# Altium integrated library Capacitors - Ceramic - 0402.IntLib: 4569 symbols (part 21 of 100)
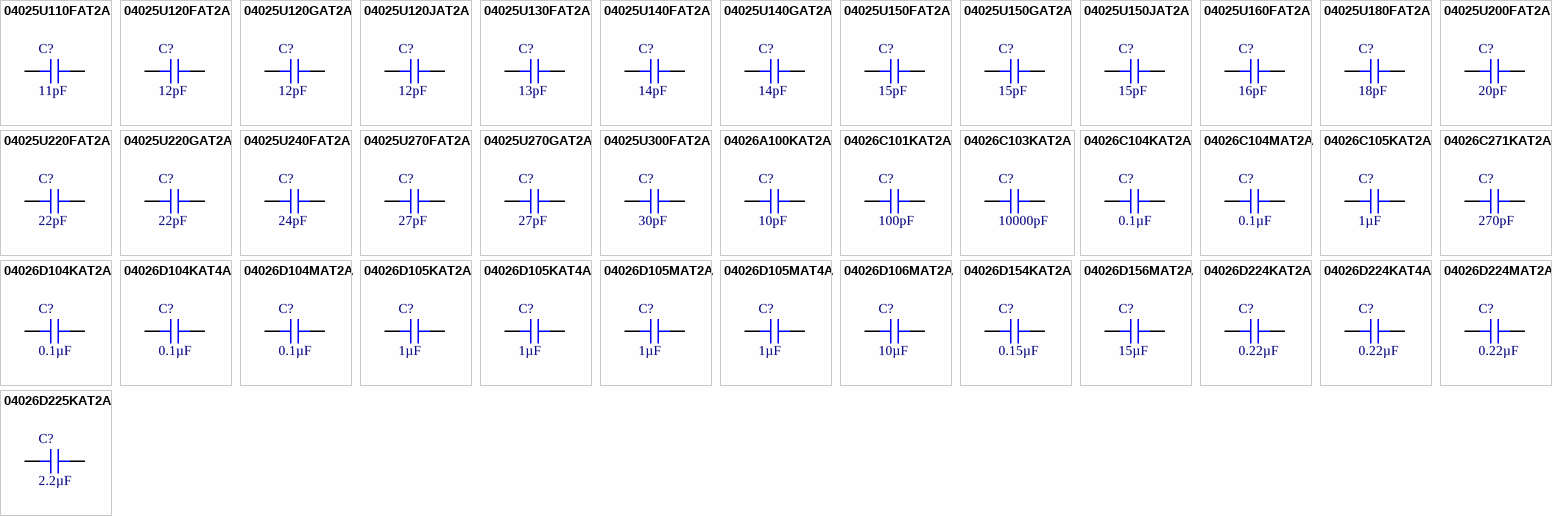
[diagram p134: symbols 04025U110FAT2A to 04026D225KAT2A]

## 04025U150GAT2A
designator C?, comment 15pF
CAP CER 15PF 50V NP0 0402; Part Number: 04025U150GAT2A; Manufacturer: AVX Corporation; Temperature Coefficient: C0G, NP0; Tolerance: ±2%; Value: 15pF; Applications: RF, Microwave, High Frequency; Capacitance: 15pF; ComponentLink1Description: Datasheet; ComponentLink1URL: http://datasheets.avx.com/U-Series.pdf; ComponentLink2Description: DigiKey Link; ComponentLink2URL: http://digikey.com/product-detail/en/avx-corporation/04025U150GAT2A/478-10142-1-ND/6797162; Device Package: 0402 (1005 Metric); Features: Ultra Low ESR; LastUpdated: 9/2/2020 1:02:14 AM; Lifecycle Status: Active; Minimum Order: 1; Mounting Type: Surface Mount, MLCC; Operating Temperature: -55°C ~ 125°C; Package / Case: 0402 (1005 Metric); Packaging: TapeAndReel; PartId: 6353; Part Status: Active; Price: 0.04; Series: U; Size / Dimension: 0.039" L x 0.020" W (1.00mm x 0.50mm); Supplier 1: DigiKey; Supplier Part Number 1: 478-10142-1-ND; Thickness (Max): 0.022" (0.55mm); Voltage - Rated: 50V
footprint CAP 0402_1005
pins: 1, 2

## 04025U150JAT2A
designator C?, comment 15pF
CAP CER 15PF 50V NP0 0402; Part Number: 04025U150JAT2A; Manufacturer: AVX Corporation; Temperature Coefficient: C0G, NP0; Tolerance: ±5%; Value: 15pF; Applications: RF, Microwave, High Frequency; Capacitance: 15pF; ComponentLink1Description: Datasheet; ComponentLink1URL: http://datasheets.avx.com/U-Series.pdf; ComponentLink2Description: DigiKey Link; ComponentLink2URL: http://digikey.com/product-detail/en/avx-corporation/04025U150JAT2A/478-10143-1-ND/6797163; Device Package: 0402 (1005 Metric); Features: Ultra Low ESR; LastUpdated: 9/2/2020 1:01:58 AM; Lifecycle Status: Active; Minimum Order: 1; Mounting Type: Surface Mount, MLCC; Operating Temperature: -55°C ~ 125°C; Package / Case: 0402 (1005 Metric); Packaging: TapeAndReel; PartId: 11912; Part Status: Active; Price: 0.02; Series: U; Size / Dimension: 0.039" L x 0.020" W (1.00mm x 0.50mm); Supplier 1: DigiKey; Supplier Part Number 1: 478-10143-1-ND; Thickness (Max): 0.022" (0.55mm); Voltage - Rated: 50V
footprint CAP 0402_1005
pins: 1, 2

## 04025U160FAT2A
designator C?, comment 16pF
CAP CER 16PF 50V NP0 0402; Part Number: 04025U160FAT2A; Manufacturer: AVX Corporation; Temperature Coefficient: C0G, NP0; Tolerance: ±1%; Value: 16pF; Applications: RF, Microwave, High Frequency; Capacitance: 16pF; ComponentLink1Description: Datasheet; ComponentLink1URL: http://datasheets.avx.com/U-Series.pdf; ComponentLink2Description: DigiKey Link; ComponentLink2URL: http://digikey.com/product-detail/en/avx-corporation/04025U160FAT2A/478-11769-1-ND/8573405; Device Package: 0402 (1005 Metric); Features: Ultra Low ESR; LastUpdated: 9/2/2020 1:02:21 AM; Lifecycle Status: Active; Minimum Order: 1; Mounting Type: Surface Mount, MLCC; Operating Temperature: -55°C ~ 125°C; Package / Case: 0402 (1005 Metric); Packaging: TapeAndReel; PartId: 3429; Part Status: Active; Price: 0.07; Series: U; Size / Dimension: 0.039" L x 0.020" W (1.00mm x 0.50mm); Supplier 1: DigiKey; Supplier Part Number 1: 478-11769-1-ND; Thickness (Max): 0.022" (0.55mm); Voltage - Rated: 50V
footprint CAP 0402_1005
pins: 1, 2

## 04025U180FAT2A
designator C?, comment 18pF
CAP CER 18PF 50V NP0 0402; Part Number: 04025U180FAT2A; Manufacturer: AVX Corporation; Temperature Coefficient: C0G, NP0; Tolerance: ±1%; Value: 18pF; Applications: RF, Microwave, High Frequency; Capacitance: 18pF; ComponentLink1Description: Datasheet; ComponentLink1URL: http://datasheets.avx.com/U-Series.pdf; ComponentLink2Description: DigiKey Link; ComponentLink2URL: http://digikey.com/product-detail/en/avx-corporation/04025U180FAT2A/478-10144-1-ND/6797164; Device Package: 0402 (1005 Metric); Features: Ultra Low ESR; LastUpdated: 9/2/2020 1:02:14 AM; Lifecycle Status: Active; Minimum Order: 1; Mounting Type: Surface Mount, MLCC; Operating Temperature: -55°C ~ 125°C; Package / Case: 0402 (1005 Metric); Packaging: TapeAndReel; PartId: 6313; Part Status: Active; Price: 0.07; Series: U; Size / Dimension: 0.039" L x 0.020" W (1.00mm x 0.50mm); Supplier 1: DigiKey; Supplier Part Number 1: 478-10144-1-ND; Thickness (Max): 0.022" (0.55mm); Voltage - Rated: 50V
footprint CAP 0402_1005
pins: 1, 2

## 04025U200FAT2A
designator C?, comment 20pF
CAP CER 20PF 50V NP0 0402; Part Number: 04025U200FAT2A; Manufacturer: AVX Corporation; Temperature Coefficient: C0G, NP0; Tolerance: ±1%; Value: 20pF; Applications: RF, Microwave, High Frequency; Capacitance: 20pF; ComponentLink1Description: Datasheet; ComponentLink1URL: http://datasheets.avx.com/U-Series.pdf; ComponentLink2Description: DigiKey Link; ComponentLink2URL: http://digikey.com/product-detail/en/avx-corporation/04025U200FAT2A/478-10147-1-ND/6797167; Device Package: 0402 (1005 Metric); Features: Ultra Low ESR; LastUpdated: 9/2/2020 1:02:23 AM; Lifecycle Status: Active; Minimum Order: 1; Mounting Type: Surface Mount, MLCC; Operating Temperature: -55°C ~ 125°C; Package / Case: 0402 (1005 Metric); Packaging: TapeAndReel; PartId: 2178; Part Status: Active; Price: 0.07; Series: U; Size / Dimension: 0.039" L x 0.020" W (1.00mm x 0.50mm); Supplier 1: DigiKey; Supplier Part Number 1: 478-10147-1-ND; Thickness (Max): 0.022" (0.55mm); Voltage - Rated: 50V
footprint CAP 0402_1005
pins: 1, 2

## 04025U220FAT2A
designator C?, comment 22pF
CAP CER 22PF 50V NP0 0402; Part Number: 04025U220FAT2A; Manufacturer: AVX Corporation; Temperature Coefficient: C0G, NP0; Tolerance: ±1%; Value: 22pF; Applications: RF, Microwave, High Frequency; Capacitance: 22pF; ComponentLink1Description: Datasheet; ComponentLink1URL: http://datasheets.avx.com/U-Series.pdf; ComponentLink2Description: DigiKey Link; ComponentLink2URL: http://digikey.com/product-detail/en/avx-corporation/04025U220FAT2A/478-10148-1-ND/6797168; Device Package: 0402 (1005 Metric); Features: Ultra Low ESR; LastUpdated: 9/2/2020 1:02:21 AM; Lifecycle Status: Active; Minimum Order: 1; Mounting Type: Surface Mount, MLCC; Operating Temperature: -55°C ~ 125°C; Package / Case: 0402 (1005 Metric); Packaging: TapeAndReel; PartId: 3435; Part Status: Active; Price: 0.07; Series: U; Size / Dimension: 0.039" L x 0.020" W (1.00mm x 0.50mm); Supplier 1: DigiKey; Supplier Part Number 1: 478-10148-1-ND; Thickness (Max): 0.022" (0.55mm); Voltage - Rated: 50V
footprint CAP 0402_1005
pins: 1, 2

## 04025U220GAT2A
designator C?, comment 22pF
CAP CER 22PF 50V NP0 0402; Part Number: 04025U220GAT2A; Manufacturer: AVX Corporation; Temperature Coefficient: C0G, NP0; Tolerance: ±2%; Value: 22pF; Applications: RF, Microwave, High Frequency; Capacitance: 22pF; ComponentLink1Description: Datasheet; ComponentLink1URL: http://datasheets.avx.com/U-Series.pdf; ComponentLink2Description: DigiKey Link; ComponentLink2URL: http://digikey.com/product-detail/en/avx-corporation/04025U220GAT2A/478-11770-1-ND/8573406; Device Package: 0402 (1005 Metric); Features: Ultra Low ESR; LastUpdated: 9/2/2020 1:02:08 AM; Lifecycle Status: Active; Minimum Order: 1; Mounting Type: Surface Mount, MLCC; Operating Temperature: -55°C ~ 125°C; Package / Case: 0402 (1005 Metric); Packaging: TapeAndReel; PartId: 9247; Part Status: Active; Price: 0.05; Series: U; Size / Dimension: 0.039" L x 0.020" W (1.00mm x 0.50mm); Supplier 1: DigiKey; Supplier Part Number 1: 478-11770-1-ND; Thickness (Max): 0.022" (0.55mm); Voltage - Rated: 50V
footprint CAP 0402_1005
pins: 1, 2

## 04025U240FAT2A
designator C?, comment 24pF
CAP CER 24PF 50V NP0 0402; Part Number: 04025U240FAT2A; Manufacturer: AVX Corporation; Temperature Coefficient: C0G, NP0; Tolerance: ±1%; Value: 24pF; Applications: RF, Microwave, High Frequency; Capacitance: 24pF; ComponentLink1Description: Datasheet; ComponentLink1URL: http://datasheets.avx.com/U-Series.pdf; ComponentLink2Description: DigiKey Link; ComponentLink2URL: http://digikey.com/product-detail/en/avx-corporation/04025U240FAT2A/478-10149-1-ND/6797169; Device Package: 0402 (1005 Metric); Features: Ultra Low ESR; LastUpdated: 9/2/2020 1:02:21 AM; Lifecycle Status: Active; Minimum Order: 1; Mounting Type: Surface Mount, MLCC; Operating Temperature: -55°C ~ 125°C; Package / Case: 0402 (1005 Metric); Packaging: TapeAndReel; PartId: 3437; Part Status: Active; Price: 0.07; Series: U; Size / Dimension: 0.039" L x 0.020" W (1.00mm x 0.50mm); Supplier 1: DigiKey; Supplier Part Number 1: 478-10149-1-ND; Thickness (Max): 0.022" (0.55mm); Voltage - Rated: 50V
footprint CAP 0402_1005
pins: 1, 2

## 04025U270FAT2A
designator C?, comment 27pF
CAP CER 27PF 50V NP0 0402; Part Number: 04025U270FAT2A; Manufacturer: AVX Corporation; Temperature Coefficient: C0G, NP0; Tolerance: ±1%; Value: 27pF; Applications: RF, Microwave, High Frequency; Capacitance: 27pF; ComponentLink1Description: Datasheet; ComponentLink1URL: http://datasheets.avx.com/U-Series.pdf; ComponentLink2Description: DigiKey Link; ComponentLink2URL: http://digikey.com/product-detail/en/avx-corporation/04025U270FAT2A/478-10150-1-ND/6797459; Device Package: 0402 (1005 Metric); Features: Ultra Low ESR; LastUpdated: 9/2/2020 1:02:03 AM; Lifecycle Status: Active; Minimum Order: 1; Mounting Type: Surface Mount, MLCC; Operating Temperature: -55°C ~ 125°C; Package / Case: 0402 (1005 Metric); Packaging: TapeAndReel; PartId: 11302; Part Status: Active; Price: 0.07; Series: U; Size / Dimension: 0.039" L x 0.020" W (1.00mm x 0.50mm); Supplier 1: DigiKey; Supplier Part Number 1: 478-10150-1-ND; Thickness (Max): 0.022" (0.55mm); Voltage - Rated: 50V
footprint CAP 0402_1005
pins: 1, 2

## 04025U270GAT2A
designator C?, comment 27pF
CAP CER 27PF 50V NP0 0402; Part Number: 04025U270GAT2A; Manufacturer: AVX Corporation; Temperature Coefficient: C0G, NP0; Tolerance: ±2%; Value: 27pF; Applications: RF, Microwave, High Frequency; Capacitance: 27pF; ComponentLink1Description: Datasheet; ComponentLink1URL: http://datasheets.avx.com/U-Series.pdf; ComponentLink2Description: DigiKey Link; ComponentLink2URL: http://digikey.com/product-detail/en/avx-corporation/04025U270GAT2A/478-11771-1-ND/8573407; Device Package: 0402 (1005 Metric); Features: Ultra Low ESR; LastUpdated: 9/2/2020 1:02:19 AM; Lifecycle Status: Active; Minimum Order: 1; Mounting Type: Surface Mount, MLCC; Operating Temperature: -55°C ~ 125°C; Package / Case: 0402 (1005 Metric); Packaging: TapeAndReel; PartId: 4296; Part Status: Active; Price: 0.04; Series: U; Size / Dimension: 0.039" L x 0.020" W (1.00mm x 0.50mm); Supplier 1: DigiKey; Supplier Part Number 1: 478-11771-1-ND; Thickness (Max): 0.022" (0.55mm); Voltage - Rated: 50V
footprint CAP 0402_1005
pins: 1, 2

## 04025U300FAT2A
designator C?, comment 30pF
CAP CER 30PF 50V NP0 0402; Part Number: 04025U300FAT2A; Manufacturer: AVX Corporation; Temperature Coefficient: C0G, NP0; Tolerance: ±1%; Value: 30pF; Applications: RF, Microwave, High Frequency; Capacitance: 30pF; ComponentLink1Description: Datasheet; ComponentLink1URL: http://datasheets.avx.com/U-Series.pdf; ComponentLink2Description: DigiKey Link; ComponentLink2URL: http://digikey.com/product-detail/en/avx-corporation/04025U300FAT2A/478-10154-1-ND/6797173; Device Package: 0402 (1005 Metric); Features: Ultra Low ESR; LastUpdated: 9/2/2020 1:02:21 AM; Lifecycle Status: Active; Minimum Order: 1; Mounting Type: Surface Mount, MLCC; Operating Temperature: -55°C ~ 125°C; Package / Case: 0402 (1005 Metric); Packaging: TapeAndReel; PartId: 3432; Part Status: Active; Price: 0.07; Series: U; Size / Dimension: 0.039" L x 0.020" W (1.00mm x 0.50mm); Supplier 1: DigiKey; Supplier Part Number 1: 478-10154-1-ND; Thickness (Max): 0.022" (0.55mm); Voltage - Rated: 50V
footprint CAP 0402_1005
pins: 1, 2

## 04026A100KAT2A
designator C?, comment 10pF
CAP CER 10PF 6.3V NP0 0402; Part Number: 04026A100KAT2A; Manufacturer: AVX Corporation; Temperature Coefficient: C0G, NP0; Tolerance: ±10%; Value: 10pF; Applications: General Purpose; Capacitance: 10pF; ComponentLink1Description: Datasheet; ComponentLink1URL: http://datasheets.avx.com/C0GNP0-Dielectric.pdf; ComponentLink2Description: DigiKey Link; ComponentLink2URL: http://digikey.com/product-detail/en/avx-corporation/04026A100KAT2A/478-12646-1-ND/9949179; Device Package: 0402 (1005 Metric); LastUpdated: 9/2/2020 1:02:24 AM; Lifecycle Status: Active; Minimum Order: 1; Mounting Type: Surface Mount, MLCC; Operating Temperature: -55°C ~ 125°C; Package / Case: 0402 (1005 Metric); Packaging: TapeAndReel; PartId: 2031; Part Status: Active; Price: 0.01; Series: -; Size / Dimension: 0.039" L x 0.020" W (1.00mm x 0.50mm); Supplier 1: DigiKey; Supplier Part Number 1: 478-12646-1-ND; Thickness (Max): 0.022" (0.55mm); Voltage - Rated: 6.3V
footprint CAP 0402_1005
pins: 1, 2

## 04026C101KAT2A
designator C?, comment 100pF
CAP CER 100PF 6.3V X7R 0402; Part Number: 04026C101KAT2A; Manufacturer: AVX Corporation; Tolerance: ±10%; Value: 100pF; Applications: General Purpose; Capacitance: 100pF; ComponentLink1Description: Datasheet; ComponentLink1URL: http://datasheets.avx.com/X7RDielectric.pdf; ComponentLink2Description: DigiKey Link; ComponentLink2URL: http://digikey.com/product-detail/en/avx-corporation/04026C101KAT2A/478-12647-1-ND/9949180; Device Package: 0402 (1005 Metric); LastUpdated: 9/2/2020 1:02:19 AM; Lifecycle Status: Active; Minimum Order: 1; Mounting Type: Surface Mount, MLCC; Operating Temperature: -55°C ~ 125°C; Package / Case: 0402 (1005 Metric); Packaging: TapeAndReel; PartId: 4266; Part Status: Active; Price: 0.04; Series: -; Size / Dimension: 0.039" L x 0.020" W (1.00mm x 0.50mm); Supplier 1: DigiKey; Supplier Part Number 1: 478-12647-1-ND; Temperature Coefficient: X7R; Thickness (Max): 0.022" (0.56mm); Voltage - Rated: 6.3V
footprint CAP 0402_1005
pins: 1, 2

## 04026C103KAT2A
designator C?, comment 10000pF
CAP CER 10000PF 6.3V X7R 0402; Part Number: 04026C103KAT2A; Manufacturer: AVX Corporation; Tolerance: ±10%; Value: 10000pF; Applications: General Purpose; Capacitance: 10000pF; ComponentLink1Description: Datasheet; ComponentLink1URL: http://datasheets.avx.com/X7RDielectric.pdf; ComponentLink2Description: DigiKey Link; ComponentLink2URL: http://digikey.com/product-detail/en/avx-corporation/04026C103KAT2A/478-04026C103KAT2ACT-ND/11570324; Device Package: 0402 (1005 Metric); LastUpdated: 9/2/2020 1:00:46 AM; Lifecycle Status: Active; Minimum Order: 1; Mounting Type: Surface Mount, MLCC; Operating Temperature: -55°C ~ 125°C; Package / Case: 0402 (1005 Metric); Packaging: TapeAndReel; PartId: 27104; Part Status: Active; Price: 0.01; Series: -; Supplier 1: DigiKey; Supplier Part Number 1: 478-04026C103KAT2ACT-ND; Temperature Coefficient: X7R; Voltage - Rated: 6.3V
footprint CAP 0402_1005
pins: 1, 2

## 04026C104KAT2A
designator C?, comment 0.1µF
CAP CER 0.1UF 6.3V X7R 0402; Part Number: 04026C104KAT2A; Manufacturer: AVX Corporation; Tolerance: ±10%; Value: 0.1µF; Applications: General Purpose; Capacitance: 0.1µF; ComponentLink1Description: Datasheet; ComponentLink1URL: http://datasheets.avx.com/X7RDielectric.pdf; ComponentLink2Description: DigiKey Link; ComponentLink2URL: http://digikey.com/product-detail/en/avx-corporation/04026C104KAT2A/478-7883-1-ND/3881506; Device Package: 0402 (1005 Metric); LastUpdated: 9/2/2020 1:02:07 AM; Lifecycle Status: Active; Minimum Order: 1; Mounting Type: Surface Mount, MLCC; Operating Temperature: -55°C ~ 125°C; Package / Case: 0402 (1005 Metric); Packaging: TapeAndReel; PartId: 9383; Part Status: Active; Price: 0.09; Series: -; Size / Dimension: 0.039" L x 0.020" W (1.00mm x 0.50mm); Supplier 1: DigiKey; Supplier Part Number 1: 478-7883-1-ND; Temperature Coefficient: X7R; Thickness (Max): 0.022" (0.55mm); Voltage - Rated: 6.3V
footprint CAP 0402_1005
pins: 1, 2

## 04026C104MAT2A
designator C?, comment 0.1µF
CAP CER 0.1UF 6.3V X7R 0402; Part Number: 04026C104MAT2A; Manufacturer: AVX Corporation; Tolerance: ±20%; Value: 0.1µF; Applications: General Purpose; Capacitance: 0.1µF; ComponentLink1Description: Datasheet; ComponentLink1URL: http://datasheets.avx.com/X7RDielectric.pdf; ComponentLink2Description: DigiKey Link; ComponentLink2URL: http://digikey.com/product-detail/en/avx-corporation/04026C104MAT2A/478-04026C104MAT2ACT-ND/11570266; Device Package: 0402 (1005 Metric); LastUpdated: 9/2/2020 1:00:46 AM; Lifecycle Status: Active; Minimum Order: 1; Mounting Type: Surface Mount, MLCC; Operating Temperature: -55°C ~ 125°C; Package / Case: 0402 (1005 Metric); Packaging: TapeAndReel; PartId: 27098; Part Status: Active; Price: 0.01; Series: -; Supplier 1: DigiKey; Supplier Part Number 1: 478-04026C104MAT2ACT-ND; Temperature Coefficient: X7R; Voltage - Rated: 6.3V
footprint CAP 0402_1005
pins: 1, 2

## 04026C105KAT2A
designator C?, comment 1µF
CAP CER 1UF 6.3V X7R 0402; Part Number: 04026C105KAT2A; Manufacturer: AVX Corporation; Tolerance: ±10%; Value: 1µF; Applications: General Purpose; Capacitance: 1µF; ComponentLink1Description: Datasheet; ComponentLink1URL: http://datasheets.avx.com/X7RDielectric.pdf; ComponentLink2Description: DigiKey Link; ComponentLink2URL: http://digikey.com/product-detail/en/avx-corporation/04026C105KAT2A/478-10061-1-ND/6564283; Device Package: 0402 (1005 Metric); LastUpdated: 9/2/2020 1:02:12 AM; Lifecycle Status: Active; Minimum Order: 1; Mounting Type: Surface Mount, MLCC; Operating Temperature: -55°C ~ 125°C; Package / Case: 0402 (1005 Metric); Packaging: TapeAndReel; PartId: 7269; Part Status: Active; Price: 0.12; Series: -; Size / Dimension: 0.039" L x 0.020" W (1.00mm x 0.50mm); Supplier 1: DigiKey; Supplier Part Number 1: 478-10061-1-ND; Temperature Coefficient: X7R; Thickness (Max): 0.022" (0.56mm); Voltage - Rated: 6.3V
footprint CAP 0402_1005
pins: 1, 2

## 04026C271KAT2A
designator C?, comment 270pF
CAP CER 270PF 6.3V X7R 0402; Part Number: 04026C271KAT2A; Manufacturer: AVX Corporation; Tolerance: ±10%; Value: 270pF; Applications: General Purpose; Capacitance: 270pF; ComponentLink1Description: Datasheet; ComponentLink1URL: http://datasheets.avx.com/X7RDielectric.pdf; ComponentLink2Description: DigiKey Link; ComponentLink2URL: http://digikey.com/product-detail/en/avx-corporation/04026C271KAT2A/478-11773-1-ND/8573409; Device Package: 0402 (1005 Metric); LastUpdated: 9/2/2020 1:02:16 AM; Lifecycle Status: Active; Minimum Order: 1; Mounting Type: Surface Mount, MLCC; Operating Temperature: -55°C ~ 125°C; Package / Case: 0402 (1005 Metric); Packaging: TapeAndReel; PartId: 5396; Part Status: Active; Price: 0.06; Series: -; Size / Dimension: 0.039" L x 0.020" W (1.00mm x 0.50mm); Supplier 1: DigiKey; Supplier Part Number 1: 478-11773-1-ND; Temperature Coefficient: X7R; Thickness (Max): 0.022" (0.56mm); Voltage - Rated: 6.3V
footprint CAP 0402_1005
pins: 1, 2

## 04026D104KAT2A
designator C?, comment 0.1µF
CAP CER 0.1UF 6.3V X5R 0402; Part Number: 04026D104KAT2A; Manufacturer: AVX Corporation; Tolerance: ±10%; Value: 0.1µF; Applications: General Purpose; Capacitance: 0.1µF; ComponentLink1Description: Datasheet; ComponentLink1URL: http://datasheets.avx.com/cx5r.pdf; ComponentLink2Description: DigiKey Link; ComponentLink2URL: http://digikey.com/product-detail/en/avx-corporation/04026D104KAT2A/478-7884-1-ND/3881507; Device Package: 0402 (1005 Metric); LastUpdated: 9/2/2020 1:02:24 AM; Lifecycle Status: Active; Minimum Order: 1; Mounting Type: Surface Mount, MLCC; Operating Temperature: -55°C ~ 85°C; Package / Case: 0402 (1005 Metric); Packaging: CutTape; PartId: 2016; Part Status: Active; Price: 0.10; Series: -; Size / Dimension: 0.039" L x 0.020" W (1.00mm x 0.50mm); Supplier 1: DigiKey; Supplier Part Number 1: 478-7884-1-ND; Temperature Coefficient: X5R; Thickness (Max): 0.022" (0.56mm); Voltage - Rated: 6.3V
footprint CAP 0402_1005
pins: 1, 2

## 04026D104KAT4A
designator C?, comment 0.1µF
CAP CER 0.1UF 6.3V X5R 0402; Part Number: 04026D104KAT4A; Manufacturer: AVX Corporation; Tolerance: ±10%; Value: 0.1µF; Applications: General Purpose; Capacitance: 0.1µF; ComponentLink1Description: Datasheet; ComponentLink1URL: http://datasheets.avx.com/cx5r.pdf; ComponentLink2Description: DigiKey Link; ComponentLink2URL: http://digikey.com/product-detail/en/avx-corporation/04026D104KAT4A/478-11504-1-ND/8107705; Device Package: 0402 (1005 Metric); LastUpdated: 9/2/2020 1:02:04 AM; Lifecycle Status: Active; Minimum Order: 1; Mounting Type: Surface Mount, MLCC; Operating Temperature: -55°C ~ 85°C; Package / Case: 0402 (1005 Metric); Packaging: CutTape; PartId: 10659; Part Status: Active; Price: 0.10; Series: -; Size / Dimension: 0.039" L x 0.020" W (1.00mm x 0.50mm); Supplier 1: DigiKey; Supplier Part Number 1: 478-11504-1-ND; Temperature Coefficient: X5R; Voltage - Rated: 6.3V
footprint CAP 0402_1005
pins: 1, 2

## 04026D104MAT2A
designator C?, comment 0.1µF
CAP CER 0.1UF 6.3V X5R 0402; Part Number: 04026D104MAT2A; Manufacturer: AVX Corporation; Tolerance: ±20%; Value: 0.1µF; Applications: General Purpose; Capacitance: 0.1µF; ComponentLink1Description: Datasheet; ComponentLink1URL: http://datasheets.avx.com/cx5r.pdf; ComponentLink2Description: DigiKey Link; ComponentLink2URL: http://digikey.com/product-detail/en/avx-corporation/04026D104MAT2A/478-04026D104MAT2ACT-ND/11570133; Device Package: 0402 (1005 Metric); LastUpdated: 9/2/2020 1:00:46 AM; Lifecycle Status: Active; Minimum Order: 1; Mounting Type: Surface Mount, MLCC; Operating Temperature: -55°C ~ 85°C; Package / Case: 0402 (1005 Metric); Packaging: TapeAndReel; PartId: 27101; Part Status: Active; Price: 0.01; Series: -; Supplier 1: DigiKey; Supplier Part Number 1: 478-04026D104MAT2ACT-ND; Temperature Coefficient: X5R; Voltage - Rated: 6.3V
footprint CAP 0402_1005
pins: 1, 2

## 04026D105KAT2A
designator C?, comment 1µF
CAP CER 1UF 6.3V X5R 0402; Part Number: 04026D105KAT2A; Manufacturer: AVX Corporation; Tolerance: ±10%; Value: 1µF; Applications: General Purpose; Capacitance: 1µF; ComponentLink1Description: Datasheet; ComponentLink1URL: http://datasheets.avx.com/cx5r.pdf; ComponentLink2Description: DigiKey Link; ComponentLink2URL: http://digikey.com/product-detail/en/avx-corporation/04026D105KAT2A/478-2583-1-ND/717528; Device Package: 0402 (1005 Metric); LastUpdated: 9/2/2020 1:02:09 AM; Lifecycle Status: Active; Minimum Order: 1; Mounting Type: Surface Mount, MLCC; Operating Temperature: -55°C ~ 85°C; Package / Case: 0402 (1005 Metric); Packaging: TapeAndReel; PartId: 8769; Part Status: Active; Price: 0.02; Series: -; Size / Dimension: 0.039" L x 0.020" W (1.00mm x 0.50mm); Supplier 1: DigiKey; Supplier Part Number 1: 478-2583-1-ND; Temperature Coefficient: X5R; Thickness (Max): 0.022" (0.56mm); Voltage - Rated: 6.3V
footprint CAP 0402_1005
pins: 1, 2

## 04026D105KAT4A
designator C?, comment 1µF
CAP CER 1UF 6.3V X5R 0402; Part Number: 04026D105KAT4A; Manufacturer: AVX Corporation; Tolerance: ±10%; Value: 1µF; Applications: General Purpose; Capacitance: 1µF; ComponentLink1Description: Datasheet; ComponentLink1URL: http://datasheets.avx.com/cx5r.pdf; ComponentLink2Description: DigiKey Link; ComponentLink2URL: http://digikey.com/product-detail/en/avx-corporation/04026D105KAT4A/478-11500-1-ND/8107701; Device Package: 0402 (1005 Metric); LastUpdated: 9/2/2020 1:02:17 AM; Lifecycle Status: Active; Minimum Order: 1; Mounting Type: Surface Mount, MLCC; Operating Temperature: -55°C ~ 85°C; Package / Case: 0402 (1005 Metric); Packaging: TapeAndReel; PartId: 5049; Part Status: Active; Price: 0.02; Series: -; Size / Dimension: 0.039" L x 0.020" W (1.00mm x 0.50mm); Supplier 1: DigiKey; Supplier Part Number 1: 478-11500-1-ND; Temperature Coefficient: X5R; Thickness (Max): 0.022" (0.56mm); Voltage - Rated: 6.3V
footprint CAP 0402_1005
pins: 1, 2

## 04026D105MAT2A
designator C?, comment 1µF
CAP CER 1UF 6.3V X5R 0402; Part Number: 04026D105MAT2A; Manufacturer: AVX Corporation; Tolerance: ±20%; Value: 1µF; Applications: General Purpose; Capacitance: 1µF; ComponentLink1Description: Datasheet; ComponentLink1URL: http://datasheets.avx.com/cx5r.pdf; ComponentLink2Description: DigiKey Link; ComponentLink2URL: http://digikey.com/product-detail/en/avx-corporation/04026D105MAT2A/478-5315-1-ND/1950982; Device Package: 0402 (1005 Metric); LastUpdated: 9/2/2020 1:02:09 AM; Lifecycle Status: Active; Minimum Order: 1; Mounting Type: Surface Mount, MLCC; Operating Temperature: -55°C ~ 85°C; Package / Case: 0402 (1005 Metric); Packaging: TapeAndReel; PartId: 8762; Part Status: Active; Price: 0.04; Series: -; Size / Dimension: 0.039" L x 0.020" W (1.00mm x 0.50mm); Supplier 1: DigiKey; Supplier Part Number 1: 478-5315-1-ND; Temperature Coefficient: X5R; Thickness (Max): 0.022" (0.56mm); Voltage - Rated: 6.3V
footprint CAP 0402_1005
pins: 1, 2

## 04026D105MAT4A
designator C?, comment 1µF
CAP CER 1UF 6.3V X5R 0402; Part Number: 04026D105MAT4A; Manufacturer: AVX Corporation; Tolerance: ±20%; Value: 1µF; Applications: General Purpose; Capacitance: 1µF; ComponentLink1Description: Datasheet; ComponentLink1URL: http://datasheets.avx.com/cx5r.pdf; ComponentLink2Description: DigiKey Link; ComponentLink2URL: http://digikey.com/product-detail/en/avx-corporation/04026D105MAT4A/478-11501-1-ND/8107702; Device Package: 0402 (1005 Metric); LastUpdated: 9/2/2020 1:02:08 AM; Lifecycle Status: Active; Minimum Order: 1; Mounting Type: Surface Mount, MLCC; Operating Temperature: -55°C ~ 85°C; Package / Case: 0402 (1005 Metric); Packaging: TapeAndReel; PartId: 9221; Part Status: Active; Price: 0.03; Series: -; Size / Dimension: 0.039" L x 0.020" W (1.00mm x 0.50mm); Supplier 1: DigiKey; Supplier Part Number 1: 478-11501-1-ND; Temperature Coefficient: X5R; Thickness (Max): 0.022" (0.56mm); Voltage - Rated: 6.3V
footprint CAP 0402_1005
pins: 1, 2

## 04026D106MAT2A
designator C?, comment 10µF
CAP CER 10UF 6.3V X5R 0402; Part Number: 04026D106MAT2A; Manufacturer: AVX Corporation; Tolerance: ±20%; Value: 10µF; Applications: General Purpose; Capacitance: 10µF; ComponentLink1Description: Datasheet; ComponentLink1URL: http://datasheets.avx.com/cx5r.pdf; ComponentLink2Description: DigiKey Link; ComponentLink2URL: http://digikey.com/product-detail/en/avx-corporation/04026D106MAT2A/478-10059-1-ND/6564281; Device Package: 0402 (1005 Metric); LastUpdated: 9/2/2020 1:02:07 AM; Lifecycle Status: Active; Minimum Order: 1; Mounting Type: Surface Mount, MLCC; Operating Temperature: -55°C ~ 85°C; Package / Case: 0402 (1005 Metric); Packaging: TapeAndReel; PartId: 9465; Part Status: Active; Price: 0.15; Series: -; Size / Dimension: 0.039" L x 0.020" W (1.00mm x 0.50mm); Supplier 1: DigiKey; Supplier Part Number 1: 478-10059-1-ND; Temperature Coefficient: X5R; Thickness (Max): 0.028" (0.71mm); Voltage - Rated: 6.3V
footprint CAP 0402_1005
pins: 1, 2

## 04026D154KAT2A
designator C?, comment 0.15µF
CAP CER 0.15UF 6.3V X5R 0402; Part Number: 04026D154KAT2A; Manufacturer: AVX Corporation; Tolerance: ±10%; Value: 0.15µF; Applications: General Purpose; Capacitance: 0.15µF; ComponentLink1Description: Datasheet; ComponentLink1URL: http://datasheets.avx.com/cx5r.pdf; ComponentLink2Description: DigiKey Link; ComponentLink2URL: http://digikey.com/product-detail/en/avx-corporation/04026D154KAT2A/478-1130-1-ND/564162; Device Package: 0402 (1005 Metric); LastUpdated: 9/2/2020 1:02:14 AM; Lifecycle Status: Active; Minimum Order: 1; Mounting Type: Surface Mount, MLCC; Operating Temperature: -55°C ~ 85°C; Package / Case: 0402 (1005 Metric); Packaging: TapeAndReel; PartId: 6322; Part Status: Active; Price: 0.07; Series: -; Size / Dimension: 0.039" L x 0.020" W (1.00mm x 0.50mm); Supplier 1: DigiKey; Supplier Part Number 1: 478-1130-1-ND; Temperature Coefficient: X5R; Thickness (Max): 0.022" (0.56mm); Voltage - Rated: 6.3V
footprint CAP 0402_1005
pins: 1, 2

## 04026D156MAT2A
designator C?, comment 15µF
CAP CER 15UF 6.3V X5R 0402; Part Number: 04026D156MAT2A; Manufacturer: AVX Corporation; Tolerance: ±20%; Value: 15µF; Applications: General Purpose; Capacitance: 15µF; ComponentLink1Description: Datasheet; ComponentLink1URL: http://datasheets.avx.com/cx5r.pdf; ComponentLink2Description: DigiKey Link; ComponentLink2URL: http://digikey.com/product-detail/en/avx-corporation/04026D156MAT2A/478-9837-1-ND/5964922; Device Package: 0402 (1005 Metric); LastUpdated: 9/2/2020 1:02:22 AM; Lifecycle Status: Active; Minimum Order: 1; Mounting Type: Surface Mount, MLCC; Operating Temperature: -55°C ~ 85°C; Package / Case: 0402 (1005 Metric); PartId: 2863; Part Status: Active; Price: 0; Series: -; Size / Dimension: 0.039" L x 0.020" W (1.00mm x 0.50mm); Supplier 1: DigiKey; Supplier Part Number 1: 478-9837-1-ND; Temperature Coefficient: X5R; Thickness (Max): 0.022" (0.56mm); Voltage - Rated: 6.3V
footprint CAP 0402_1005
pins: 1, 2

## 04026D224KAT2A
designator C?, comment 0.22µF
CAP CER 0.22UF 6.3V X5R 0402; Part Number: 04026D224KAT2A; Manufacturer: AVX Corporation; Tolerance: ±10%; Value: 0.22µF; Applications: General Purpose; Capacitance: 0.22µF; ComponentLink1Description: Datasheet; ComponentLink1URL: http://datasheets.avx.com/cx5r.pdf; ComponentLink2Description: DigiKey Link; ComponentLink2URL: http://digikey.com/product-detail/en/avx-corporation/04026D224KAT2A/478-1132-1-ND/564164; Device Package: 0402 (1005 Metric); LastUpdated: 9/2/2020 1:02:21 AM; Lifecycle Status: Active; Minimum Order: 1; Mounting Type: Surface Mount, MLCC; Operating Temperature: -55°C ~ 85°C; Package / Case: 0402 (1005 Metric); Packaging: TapeAndReel; PartId: 3248; Part Status: Active; Price: 0.02; Series: -; Size / Dimension: 0.039" L x 0.020" W (1.00mm x 0.50mm); Supplier 1: DigiKey; Supplier Part Number 1: 478-1132-1-ND; Temperature Coefficient: X5R; Thickness (Max): 0.022" (0.56mm); Voltage - Rated: 6.3V
footprint CAP 0402_1005
pins: 1, 2

## 04026D224KAT4A
designator C?, comment 0.22µF
CAP CER 0.22UF 6.3V X5R 0402; Part Number: 04026D224KAT4A; Manufacturer: AVX Corporation; Tolerance: ±10%; Value: 0.22µF; Applications: General Purpose; Capacitance: 0.22µF; ComponentLink1Description: Datasheet; ComponentLink1URL: http://datasheets.avx.com/cx5r.pdf; ComponentLink2Description: DigiKey Link; ComponentLink2URL: http://digikey.com/product-detail/en/avx-corporation/04026D224KAT4A/478-12453-1-ND/9749305; Device Package: 0402 (1005 Metric); LastUpdated: 9/2/2020 1:02:11 AM; Lifecycle Status: Active; Minimum Order: 1; Mounting Type: Surface Mount, MLCC; Operating Temperature: -55°C ~ 85°C; Package / Case: 0402 (1005 Metric); Packaging: TapeAndReel; PartId: 7904; Part Status: Active; Price: 0.02; Series: -; Size / Dimension: 0.039" L x 0.020" W (1.00mm x 0.50mm); Supplier 1: DigiKey; Supplier Part Number 1: 478-12453-1-ND; Temperature Coefficient: X5R; Thickness (Max): 0.022" (0.56mm); Voltage - Rated: 6.3V
footprint CAP 0402_1005
pins: 1, 2

## 04026D224MAT2A
designator C?, comment 0.22µF
CAP CER 0.22UF 6.3V X5R 0402; Part Number: 04026D224MAT2A; Manufacturer: AVX Corporation; Tolerance: ±20%; Value: 0.22µF; Applications: General Purpose; Capacitance: 0.22µF; ComponentLink1Description: Datasheet; ComponentLink1URL: http://datasheets.avx.com/cx5r.pdf; ComponentLink2Description: DigiKey Link; ComponentLink2URL: http://digikey.com/product-detail/en/avx-corporation/04026D224MAT2A/478-12648-1-ND/9949181; Device Package: 0402 (1005 Metric); LastUpdated: 9/2/2020 1:02:03 AM; Lifecycle Status: Active; Minimum Order: 1; Mounting Type: Surface Mount, MLCC; Operating Temperature: -55°C ~ 85°C; Package / Case: 0402 (1005 Metric); Packaging: TapeAndReel; PartId: 11138; Part Status: Active; Price: 0.03; Series: -; Size / Dimension: 0.039" L x 0.020" W (1.00mm x 0.50mm); Supplier 1: DigiKey; Supplier Part Number 1: 478-12648-1-ND; Temperature Coefficient: X5R; Thickness (Max): 0.022" (0.56mm); Voltage - Rated: 6.3V
footprint CAP 0402_1005
pins: 1, 2

## 04026D225KAT2A
designator C?, comment 2.2µF
CAP CER 2.2UF 6.3V X5R 0402; Part Number: 04026D225KAT2A; Manufacturer: AVX Corporation; Tolerance: ±10%; Value: 2.2µF; Applications: General Purpose; Capacitance: 2.2µF; ComponentLink1Description: Datasheet; ComponentLink1URL: http://datasheets.avx.com/cx5r.pdf; ComponentLink2Description: DigiKey Link; ComponentLink2URL: http://digikey.com/product-detail/en/avx-corporation/04026D225KAT2A/478-7885-1-ND/3881508; Device Package: 0402 (1005 Metric); LastUpdated: 9/2/2020 1:02:11 AM; Lifecycle Status: Active; Minimum Order: 1; Mounting Type: Surface Mount, MLCC; Operating Temperature: -55°C ~ 85°C; Package / Case: 0402 (1005 Metric); Packaging: TapeAndReel; PartId: 7637; Part Status: Active; Price: 0.06; Series: -; Size / Dimension: 0.039" L x 0.020" W (1.00mm x 0.50mm); Supplier 1: DigiKey; Supplier Part Number 1: 478-7885-1-ND; Temperature Coefficient: X5R; Thickness (Max): 0.022" (0.56mm); Voltage - Rated: 6.3V
footprint CAP 0402_1005
pins: 1, 2

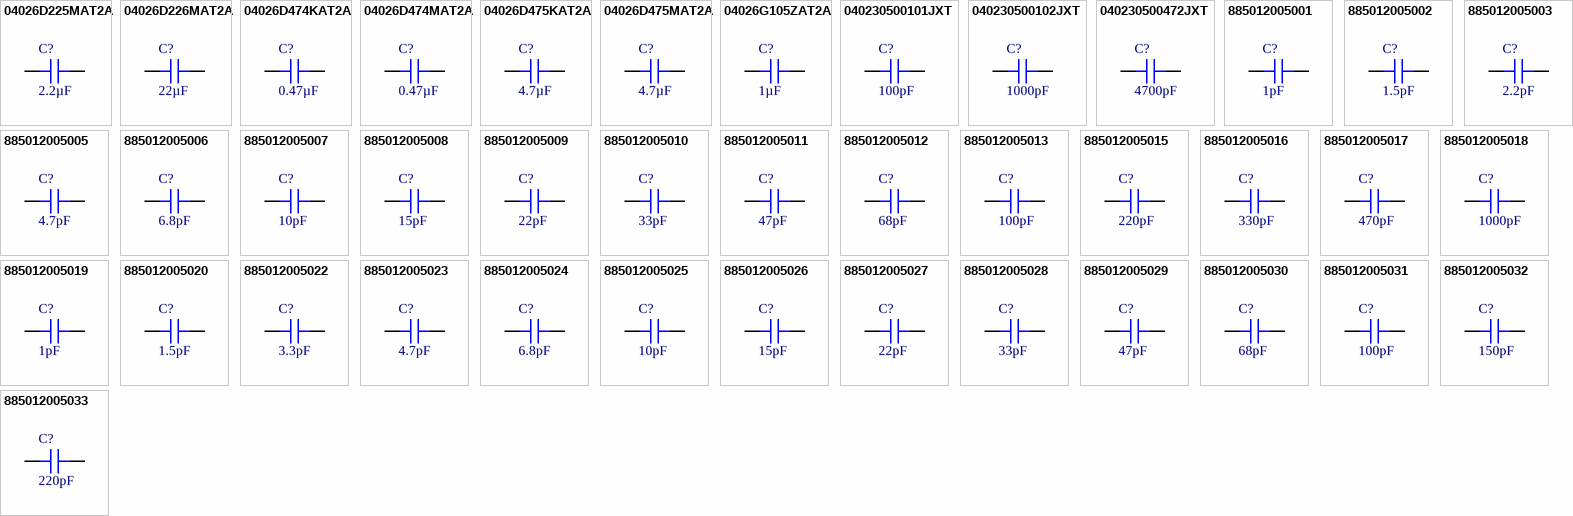
[diagram p24: symbols 04026D225MAT2A to 885012005033]

## 04026D225MAT2A
designator C?, comment 2.2µF
CAP CER 2.2UF 6.3V X5R 0402; Part Number: 04026D225MAT2A; Manufacturer: AVX Corporation; Tolerance: ±20%; Value: 2.2µF; Applications: General Purpose; Capacitance: 2.2µF; ComponentLink1Description: Datasheet; ComponentLink1URL: http://datasheets.avx.com/cx5r.pdf; ComponentLink2Description: DigiKey Link; ComponentLink2URL: http://digikey.com/product-detail/en/avx-corporation/04026D225MAT2A/478-9992-1-ND/6150567; Device Package: 0402 (1005 Metric); LastUpdated: 9/2/2020 1:02:13 AM; Lifecycle Status: Active; Minimum Order: 1; Mounting Type: Surface Mount, MLCC; Operating Temperature: -55°C ~ 85°C; Package / Case: 0402 (1005 Metric); Packaging: TapeAndReel; PartId: 7005; Part Status: Active; Price: 0.06; Series: -; Size / Dimension: 0.039" L x 0.020" W (1.00mm x 0.50mm); Supplier 1: DigiKey; Supplier Part Number 1: 478-9992-1-ND; Temperature Coefficient: X5R; Thickness (Max): 0.022" (0.55mm); Voltage - Rated: 6.3V
footprint CAP 0402_1005
pins: 1, 2

## 04026D226MAT2A
designator C?, comment 22µF
CAP CER 22UF 6.3V X5R 0402; Part Number: 04026D226MAT2A; Manufacturer: AVX Corporation; Tolerance: ±20%; Value: 22µF; Applications: General Purpose; Capacitance: 22µF; ComponentLink1Description: Datasheet; ComponentLink1URL: http://datasheets.avx.com/cx5r.pdf; ComponentLink2Description: DigiKey Link; ComponentLink2URL: http://digikey.com/product-detail/en/avx-corporation/04026D226MAT2A/478-9839-1-ND/5964924; Device Package: 0402 (1005 Metric); LastUpdated: 9/2/2020 1:01:07 AM; Lifecycle Status: Active; Minimum Order: 1; Mounting Type: Surface Mount, MLCC; Operating Temperature: -55°C ~ 85°C; Package / Case: 0402 (1005 Metric); Packaging: TapeAndReel; PartId: 26148; Part Status: Active; Price: 0.19; Series: -; Supplier 1: DigiKey; Supplier Part Number 1: 478-9839-1-ND; Temperature Coefficient: X5R; Voltage - Rated: 6.3V
footprint CAP 0402_1005
pins: 1, 2

## 04026D474KAT2A
designator C?, comment 0.47µF
CAP CER 0.47UF 6.3V X5R 0402; Part Number: 04026D474KAT2A; Manufacturer: AVX Corporation; Tolerance: ±10%; Value: 0.47µF; Applications: General Purpose; Capacitance: 0.47µF; ComponentLink1Description: Datasheet; ComponentLink1URL: http://datasheets.avx.com/cx5r.pdf; ComponentLink2Description: DigiKey Link; ComponentLink2URL: http://digikey.com/product-detail/en/avx-corporation/04026D474KAT2A/478-6196-1-ND/2391395; Device Package: 0402 (1005 Metric); LastUpdated: 9/2/2020 1:02:09 AM; Lifecycle Status: Active; Minimum Order: 1; Mounting Type: Surface Mount, MLCC; Operating Temperature: -55°C ~ 85°C; Package / Case: 0402 (1005 Metric); Packaging: TapeAndReel; PartId: 8659; Part Status: Active; Price: 0.03; Series: -; Size / Dimension: 0.039" L x 0.020" W (1.00mm x 0.50mm); Supplier 1: DigiKey; Supplier Part Number 1: 478-6196-1-ND; Temperature Coefficient: X5R; Thickness (Max): 0.022" (0.56mm); Voltage - Rated: 6.3V
footprint CAP 0402_1005
pins: 1, 2

## 04026D474MAT2A
designator C?, comment 0.47µF
CAP CER 0.47UF 6.3V X5R 0402; Part Number: 04026D474MAT2A; Manufacturer: AVX Corporation; Tolerance: ±20%; Value: 0.47µF; Applications: General Purpose; Capacitance: 0.47µF; ComponentLink1Description: Datasheet; ComponentLink1URL: http://datasheets.avx.com/cx5r.pdf; ComponentLink2Description: DigiKey Link; ComponentLink2URL: http://digikey.com/product-detail/en/avx-corporation/04026D474MAT2A/478-12225-1-ND/9565632; Device Package: 0402 (1005 Metric); LastUpdated: 9/2/2020 1:01:55 AM; Lifecycle Status: Active; Minimum Order: 1; Mounting Type: Surface Mount, MLCC; Operating Temperature: -55°C ~ 85°C; Package / Case: 0402 (1005 Metric); Packaging: TapeAndReel; PartId: 12016; Part Status: Active; Price: 0.12; Series: -; Size / Dimension: 0.039" L x 0.020" W (1.00mm x 0.50mm); Supplier 1: DigiKey; Supplier Part Number 1: 478-12225-1-ND; Temperature Coefficient: X5R; Thickness (Max): 0.022" (0.56mm); Voltage - Rated: 6.3V
footprint CAP 0402_1005
pins: 1, 2

## 04026D475KAT2A
designator C?, comment 4.7µF
CAP CER 4.7UF 6.3V X5R 0402; Part Number: 04026D475KAT2A; Manufacturer: AVX Corporation; Tolerance: ±10%; Value: 4.7µF; Applications: General Purpose; Capacitance: 4.7µF; ComponentLink1Description: Datasheet; ComponentLink1URL: http://datasheets.avx.com/cx5r.pdf; ComponentLink2Description: DigiKey Link; ComponentLink2URL: http://digikey.com/product-detail/en/avx-corporation/04026D475KAT2A/478-10669-1-ND/7536540; Device Package: 0402 (1005 Metric); LastUpdated: 9/2/2020 1:02:21 AM; Lifecycle Status: Active; Minimum Order: 1; Mounting Type: Surface Mount, MLCC; Operating Temperature: -55°C ~ 85°C; Package / Case: 0402 (1005 Metric); Packaging: TapeAndReel; PartId: 3450; Part Status: Active; Price: 0.08; Series: -; Size / Dimension: 0.039" L x 0.020" W (1.00mm x 0.50mm); Supplier 1: DigiKey; Supplier Part Number 1: 478-10669-1-ND; Temperature Coefficient: X5R; Thickness (Max): 0.028" (0.71mm); Voltage - Rated: 6.3V
footprint CAP 0402_1005
pins: 1, 2

## 04026D475MAT2A
designator C?, comment 4.7µF
CAP CER 4.7UF 6.3V X5R 0402; Part Number: 04026D475MAT2A; Manufacturer: AVX Corporation; Tolerance: ±20%; Value: 4.7µF; Applications: General Purpose; Capacitance: 4.7µF; ComponentLink1Description: Datasheet; ComponentLink1URL: http://datasheets.avx.com/cx5r.pdf; ComponentLink2Description: DigiKey Link; ComponentLink2URL: http://digikey.com/product-detail/en/avx-corporation/04026D475MAT2A/478-10071-1-ND/6564293; Device Package: 0402 (1005 Metric); LastUpdated: 9/2/2020 1:01:46 AM; Lifecycle Status: Active; Minimum Order: 1; Mounting Type: Surface Mount, MLCC; Operating Temperature: -55°C ~ 85°C; Package / Case: 0402 (1005 Metric); Packaging: TapeAndReel; PartId: 12333; Part Status: Active; Price: 0.04; Series: -; Size / Dimension: 0.039" L x 0.020" W (1.00mm x 0.50mm); Supplier 1: DigiKey; Supplier Part Number 1: 478-10071-1-ND; Temperature Coefficient: X5R; Thickness (Max): 0.028" (0.71mm); Voltage - Rated: 6.3V
footprint CAP 0402_1005
pins: 1, 2

## 04026G105ZAT2A
designator C?, comment 1µF
CAP CER 1UF 6.3V Y5V 0402; Part Number: 04026G105ZAT2A; Manufacturer: AVX Corporation; Temperature Coefficient: Y5V (F); Tolerance: -20%, +80%; Value: 1µF; Applications: General Purpose; Capacitance: 1µF; ComponentLink1Description: Datasheet; ComponentLink1URL: http://datasheets.avx.com/Y5V.pdf; ComponentLink2Description: DigiKey Link; ComponentLink2URL: http://digikey.com/product-detail/en/avx-corporation/04026G105ZAT2A/478-12452-1-ND/9749304; Device Package: 0402 (1005 Metric); LastUpdated: 9/2/2020 1:01:25 AM; Lifecycle Status: Active; Minimum Order: 1; Mounting Type: Surface Mount, MLCC; Operating Temperature: -30°C ~ 85°C; Package / Case: 0402 (1005 Metric); Packaging: TapeAndReel; PartId: 13047; Part Status: Active; Price: 0.11; Series: -; Size / Dimension: 0.039" L x 0.020" W (1.00mm x 0.50mm); Supplier 1: DigiKey; Supplier Part Number 1: 478-12452-1-ND; Thickness (Max): 0.022" (0.56mm); Voltage - Rated: 6.3V
footprint CAP 0402_1005
pins: 1, 2

## 040230500101JXT
designator C?, comment 100pF
CAP CER 100PF 50V X7R 0402; Part Number: 040230500101JXT; Manufacturer: Knowles Syfer; Temperature Coefficient: X7R (2R1); Tolerance: ±5%; Value: 100pF; Applications: Boardflex Sensitive; Capacitance: 100pF; ComponentLink1Description: Datasheet; ComponentLink1URL: https://www.knowlescapacitors.com/getattachment/ac79327c-78b2-4790-b841-4541dcd9a291/High-Power-RF; ComponentLink2Description: DigiKey Link; ComponentLink2URL: http://digikey.com/product-detail/en/knowles-syfer/040230500101JXT/1608-1288-1-ND/6565298; Device Package: 0402 (1005 Metric); Features: Non-Magnetic, Soft Termination; LastUpdated: 9/2/2020 1:02:23 AM; Lifecycle Status: Active; Minimum Order: 1; Mounting Type: Surface Mount, MLCC; Operating Temperature: -55°C ~ 125°C; Package / Case: 0402 (1005 Metric); Packaging: TapeAndReel; PartId: 2282; Part Status: Active; Price: 0.12; Series: FlexiCap™; Size / Dimension: 0.040" L x 0.020" W (1.01mm x 0.50mm); Supplier 1: DigiKey; Supplier Part Number 1: 1608-1288-1-ND; Thickness (Max): 0.024" (0.60mm); Voltage - Rated: 50V
footprint CAP 0402_1005
pins: 1, 2

## 040230500102JXT
designator C?, comment 1000pF
CAP CER 1000PF 50V X7R 0402; Part Number: 040230500102JXT; Manufacturer: Knowles Syfer; Temperature Coefficient: X7R (2R1); Tolerance: ±5%; Value: 1000pF; Applications: Boardflex Sensitive; Capacitance: 1000pF; ComponentLink1Description: Datasheet; ComponentLink1URL: https://www.knowlescapacitors.com/getattachment/ac79327c-78b2-4790-b841-4541dcd9a291/High-Power-RF; ComponentLink2Description: DigiKey Link; ComponentLink2URL: http://digikey.com/product-detail/en/knowles-syfer/040230500102JXT/1608-1289-1-ND/6565299; Device Package: 0402 (1005 Metric); Features: Non-Magnetic, Soft Termination; LastUpdated: 9/2/2020 1:02:11 AM; Lifecycle Status: Active; Minimum Order: 1; Mounting Type: Surface Mount, MLCC; Operating Temperature: -55°C ~ 125°C; Package / Case: 0402 (1005 Metric); Packaging: TapeAndReel; PartId: 7815; Part Status: Active; Price: 0.11; Series: FlexiCap™; Size / Dimension: 0.040" L x 0.020" W (1.01mm x 0.50mm); Supplier 1: DigiKey; Supplier Part Number 1: 1608-1289-1-ND; Thickness (Max): 0.024" (0.60mm); Voltage - Rated: 50V
footprint CAP 0402_1005
pins: 1, 2

## 040230500472JXT
designator C?, comment 4700pF
CAP CER 4700PF 50V X7R 0402; Part Number: 040230500472JXT; Manufacturer: Knowles Syfer; Temperature Coefficient: X7R (2R1); Tolerance: ±5%; Value: 4700pF; Applications: Boardflex Sensitive; Capacitance: 4700pF; ComponentLink1Description: Datasheet; ComponentLink1URL: https://www.knowlescapacitors.com/getattachment/ac79327c-78b2-4790-b841-4541dcd9a291/High-Power-RF; ComponentLink2Description: DigiKey Link; ComponentLink2URL: http://digikey.com/product-detail/en/knowles-syfer/040230500472JXT/1608-1290-1-ND/6565300; Device Package: 0402 (1005 Metric); Features: Non-Magnetic, Soft Termination; LastUpdated: 9/2/2020 1:02:11 AM; Lifecycle Status: Active; Minimum Order: 1; Mounting Type: Surface Mount, MLCC; Operating Temperature: -55°C ~ 125°C; Package / Case: 0402 (1005 Metric); Packaging: TapeAndReel; PartId: 7809; Part Status: Active; Price: 0.11; Series: FlexiCap™; Size / Dimension: 0.040" L x 0.020" W (1.01mm x 0.50mm); Supplier 1: DigiKey; Supplier Part Number 1: 1608-1290-1-ND; Thickness (Max): 0.024" (0.60mm); Voltage - Rated: 50V
footprint CAP 0402_1005
pins: 1, 2

## 885012005001
designator C?, comment 1pF
CAP CER 1PF 10V C0G/NP0 0402; Part Number: 885012005001; Manufacturer: Würth Elektronik; Temperature Coefficient: C0G, NP0; Tolerance: ±0.5pF; Value: 1pF; Applications: General Purpose; Capacitance: 1pF; ComponentLink1Description: Datasheet; ComponentLink1URL: https://katalog.we-online.de/pbs/datasheet/885012005001.pdf; ComponentLink2Description: DigiKey Link; ComponentLink2URL: http://digikey.com/product-detail/en/w-rth-elektronik/885012005001/732-7419-1-ND/5454046; Device Package: 0402 (1005 Metric); LastUpdated: 9/2/2020 1:02:05 AM; Lifecycle Status: Active; Minimum Order: 1; Mounting Type: Surface Mount, MLCC; Operating Temperature: -55°C ~ 125°C; Package / Case: 0402 (1005 Metric); Packaging: TapeAndReel; PartId: 10288; Part Status: Active; Price: 0.02; Series: WCAP-CSGP; Size / Dimension: 0.039" L x 0.020" W (1.00mm x 0.50mm); Supplier 1: DigiKey; Supplier Part Number 1: 732-7419-1-ND; Thickness (Max): 0.022" (0.55mm); Voltage - Rated: 10V
footprint CAP 0402_1005
pins: 1, 2

## 885012005002
designator C?, comment 1.5pF
CAP CER 1.5PF 10V C0G/NP0 0402; Part Number: 885012005002; Manufacturer: Würth Elektronik; Temperature Coefficient: C0G, NP0; Tolerance: ±0.5pF; Value: 1.5pF; Applications: General Purpose; Capacitance: 1.5pF; ComponentLink1Description: Datasheet; ComponentLink1URL: https://katalog.we-online.de/pbs/datasheet/885012005002.pdf; ComponentLink2Description: DigiKey Link; ComponentLink2URL: http://digikey.com/product-detail/en/w-rth-elektronik/885012005002/732-7420-1-ND/5454047; Device Package: 0402 (1005 Metric); LastUpdated: 9/2/2020 1:02:22 AM; Lifecycle Status: Active; Minimum Order: 1; Mounting Type: Surface Mount, MLCC; Operating Temperature: -55°C ~ 125°C; Package / Case: 0402 (1005 Metric); Packaging: TapeAndReel; PartId: 2695; Part Status: Active; Price: 0.02; Series: WCAP-CSGP; Size / Dimension: 0.039" L x 0.020" W (1.00mm x 0.50mm); Supplier 1: DigiKey; Supplier Part Number 1: 732-7420-1-ND; Thickness (Max): 0.022" (0.55mm); Voltage - Rated: 10V
footprint CAP 0402_1005
pins: 1, 2

## 885012005003
designator C?, comment 2.2pF
CAP CER 2.2PF 10V C0G/NP0 0402; Part Number: 885012005003; Manufacturer: Würth Elektronik; Temperature Coefficient: C0G, NP0; Tolerance: ±0.5pF; Value: 2.2pF; Applications: General Purpose; Capacitance: 2.2pF; ComponentLink1Description: Datasheet; ComponentLink1URL: https://katalog.we-online.de/pbs/datasheet/885012005003.pdf; ComponentLink2Description: DigiKey Link; ComponentLink2URL: http://digikey.com/product-detail/en/w-rth-elektronik/885012005003/732-7421-1-ND/5454048; Device Package: 0402 (1005 Metric); LastUpdated: 9/2/2020 1:02:22 AM; Lifecycle Status: Active; Minimum Order: 1; Mounting Type: Surface Mount, MLCC; Operating Temperature: -55°C ~ 125°C; Package / Case: 0402 (1005 Metric); Packaging: TapeAndReel; PartId: 2688; Part Status: Active; Price: 0.02; Series: WCAP-CSGP; Size / Dimension: 0.039" L x 0.020" W (1.00mm x 0.50mm); Supplier 1: DigiKey; Supplier Part Number 1: 732-7421-1-ND; Thickness (Max): 0.022" (0.55mm); Voltage - Rated: 10V
footprint CAP 0402_1005
pins: 1, 2

## 885012005005
designator C?, comment 4.7pF
CAP CER 4.7PF 10V C0G/NP0 0402; Part Number: 885012005005; Manufacturer: Würth Elektronik; Temperature Coefficient: C0G, NP0; Tolerance: ±0.5pF; Value: 4.7pF; Applications: General Purpose; Capacitance: 4.7pF; ComponentLink1Description: Datasheet; ComponentLink1URL: https://katalog.we-online.de/pbs/datasheet/885012005005.pdf; ComponentLink2Description: DigiKey Link; ComponentLink2URL: http://digikey.com/product-detail/en/w-rth-elektronik/885012005005/732-7423-1-ND/5454050; Device Package: 0402 (1005 Metric); LastUpdated: 9/2/2020 1:02:05 AM; Lifecycle Status: Active; Minimum Order: 1; Mounting Type: Surface Mount, MLCC; Operating Temperature: -55°C ~ 125°C; Package / Case: 0402 (1005 Metric); Packaging: TapeAndReel; PartId: 10324; Part Status: Active; Price: 0.02; Series: WCAP-CSGP; Size / Dimension: 0.039" L x 0.020" W (1.00mm x 0.50mm); Supplier 1: DigiKey; Supplier Part Number 1: 732-7423-1-ND; Thickness (Max): 0.022" (0.55mm); Voltage - Rated: 10V
footprint CAP 0402_1005
pins: 1, 2

## 885012005006
designator C?, comment 6.8pF
CAP CER 6.8PF 10V C0G/NP0 0402; Part Number: 885012005006; Manufacturer: Würth Elektronik; Temperature Coefficient: C0G, NP0; Tolerance: ±0.5pF; Value: 6.8pF; Applications: General Purpose; Capacitance: 6.8pF; ComponentLink1Description: Datasheet; ComponentLink1URL: https://katalog.we-online.de/pbs/datasheet/885012005006.pdf; ComponentLink2Description: DigiKey Link; ComponentLink2URL: http://digikey.com/product-detail/en/w-rth-elektronik/885012005006/732-7424-1-ND/5454051; Device Package: 0402 (1005 Metric); LastUpdated: 9/2/2020 1:02:22 AM; Lifecycle Status: Active; Minimum Order: 1; Mounting Type: Surface Mount, MLCC; Operating Temperature: -55°C ~ 125°C; Package / Case: 0402 (1005 Metric); Packaging: TapeAndReel; PartId: 2622; Part Status: Active; Price: 0.02; Series: WCAP-CSGP; Size / Dimension: 0.039" L x 0.020" W (1.00mm x 0.50mm); Supplier 1: DigiKey; Supplier Part Number 1: 732-7424-1-ND; Thickness (Max): 0.022" (0.55mm); Voltage - Rated: 10V
footprint CAP 0402_1005
pins: 1, 2

## 885012005007
designator C?, comment 10pF
CAP CER 10PF 10V C0G/NP0 0402; Part Number: 885012005007; Manufacturer: Würth Elektronik; Temperature Coefficient: C0G, NP0; Tolerance: ±5%; Value: 10pF; Applications: General Purpose; Capacitance: 10pF; ComponentLink1Description: Datasheet; ComponentLink1URL: https://katalog.we-online.de/pbs/datasheet/885012005007.pdf; ComponentLink2Description: DigiKey Link; ComponentLink2URL: http://digikey.com/product-detail/en/w-rth-elektronik/885012005007/732-7425-1-ND/5454052; Device Package: 0402 (1005 Metric); LastUpdated: 9/2/2020 1:02:11 AM; Lifecycle Status: Active; Minimum Order: 1; Mounting Type: Surface Mount, MLCC; Operating Temperature: -55°C ~ 125°C; Package / Case: 0402 (1005 Metric); Packaging: TapeAndReel; PartId: 7736; Part Status: Active; Price: 0.02; Series: WCAP-CSGP; Size / Dimension: 0.039" L x 0.020" W (1.00mm x 0.50mm); Supplier 1: DigiKey; Supplier Part Number 1: 732-7425-1-ND; Thickness (Max): 0.022" (0.55mm); Voltage - Rated: 10V
footprint CAP 0402_1005
pins: 1, 2